# Altium footprint library Connector_PinHeader_2.54mm.PcbLib: 17 footprints (part 2 of 2)
Each footprint in its own frame and in the unit in brackets; x right, y up, seen from the top. Pads: shape width x height; smd on the part's side, far side on the other; paste and mask are expansions set on the pad; w line width, h text height; cw(c..) or ccw(c..) is an arc to the next point about the centre after c.
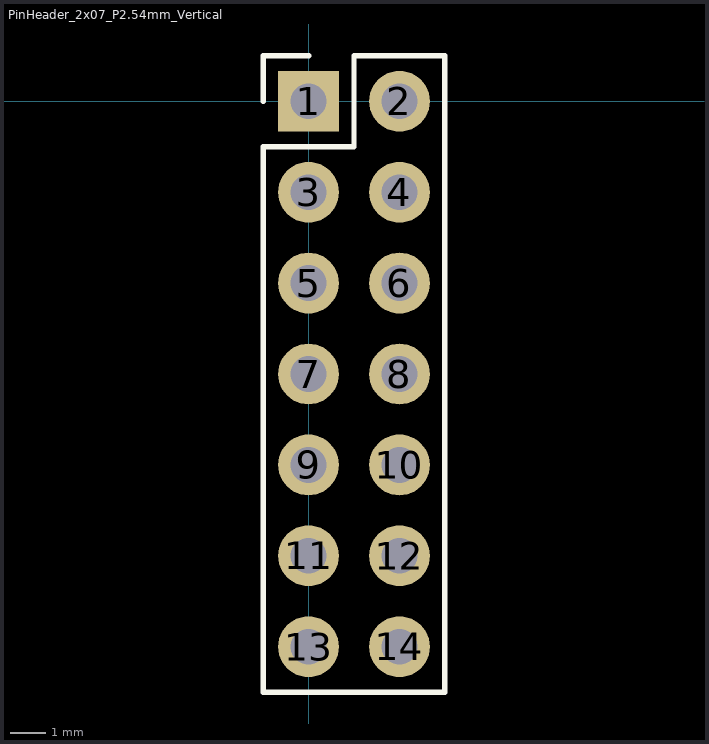
[diagram p1: the footprint, top view; thin cyan lines are the x and y axes]

## PinHeader_2x07_P2.54mm_Vertical [mm]
pads (14):
  rect 1.7x1.7 hole 1: 1(0,0)
  round 1.7 hole 1: 2(2.54,0) 3(0,-2.54) 4(2.54,-2.54) 5(0,-5.08) 6(2.54,-5.08) 7(0,-7.62) 8(2.54,-7.62) 9(0,-10.16) 10(2.54,-10.16) 11(0,-12.7) 12(2.54,-12.7) 13(0,-15.24) 14(2.54,-15.24)
Top Overlay:
  lines w0.152: -1.27,0 -1.27,1.27 0,1.27 ; -1.27,-16.51 -1.27,-1.27 1.27,-1.27 1.27,1.27 3.81,1.27 3.81,-16.51 -1.27,-16.51
3D body "PinHeader_2x07_P2.54mm_Vertical.step": height 8.54, standoff -3, extent -1.27,-16.51 3.81,1.27